# EAGLE library part 8PIN-HEADER (library 8PIN-HEADER)
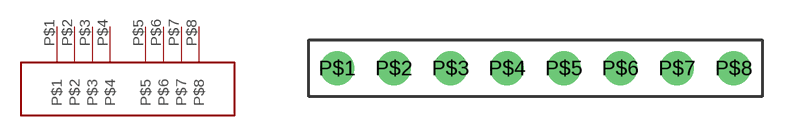
[diagram p0: symbol with the pads of HEADER; footprint HEADER]

Designator prefix -

## 8PIN-HEADER  [HEADER]
P$1  P$1
P$2  P$2
P$3  P$3
P$4  P$4
P$5  P$5
P$6  P$6
P$7  P$7
P$8  P$8

## Footprint HEADER (pad centres in mm)
drill 1 round: P$1 -8.89,0; P$2 -6.35,0; P$3 -3.81,0; P$4 -1.27,0; P$5 1.27,0; P$6 3.81,0; P$7 6.35,0; P$8 8.89,0